# EAGLE library part CD4072BM96 (library KillSwitch)
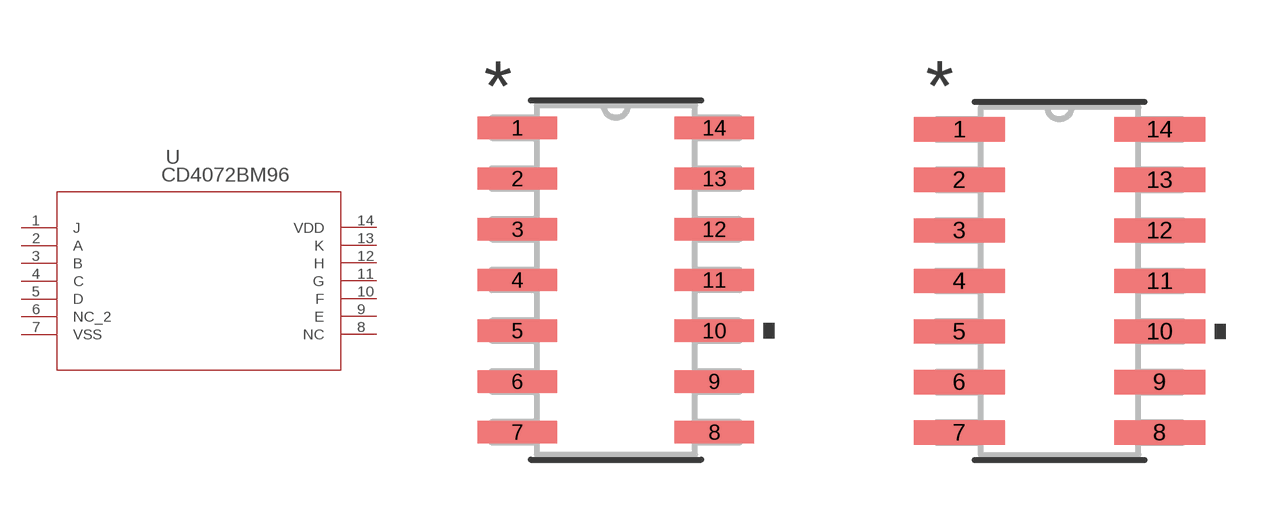
[diagram p0: symbol with the pads of D14; footprints D14, D14-M]

Designator prefix U

## CD4072BM96 (MANUFACTURER_PART_NUMBER: CD4072BM96; VENDOR: Texas Instruments)  [D14]
1  J  pas
2  A  pas
3  B  pas
4  C  pas
5  D  pas
6  NC_2  nc
7  VSS  pwr
8  NC  nc
9  E  pas
10  F  pas
11  G  pas
12  H  pas
13  K  pas
14  VDD  pwr

## CD4072BM96D14-M (MANUFACTURER_PART_NUMBER: CD4072BM96; VENDOR: Texas Instruments)  [D14-M]
Pads as for D14

## CD4072BM96D14-L (MANUFACTURER_PART_NUMBER: CD4072BM96; VENDOR: Texas Instruments)  [D14-L]
Pads as for D14

## Footprint D14 (pad centres in mm)
smd 1.981 x 0.559: 1 -2.464,3.81; 2 -2.464,2.54; 3 -2.464,1.27; 4 -2.464,0; 5 -2.464,-1.27; 6 -2.464,-2.54; 7 -2.464,-3.81; 8 2.464,-3.81; 9 2.464,-2.54; 10 2.464,-1.27; 11 2.464,0; 12 2.464,1.27; 13 2.464,2.54; 14 2.464,3.81

## Footprint D14-M (pad centres in mm)
smd 2.286 x 0.61: 1 -2.515,3.81; 2 -2.515,2.54; 3 -2.515,1.27; 4 -2.515,0; 5 -2.515,-1.27; 6 -2.515,-2.54; 7 -2.515,-3.81; 8 2.515,-3.81; 9 2.515,-2.54; 10 2.515,-1.27; 11 2.515,0; 12 2.515,1.27; 13 2.515,2.54; 14 2.515,3.81

## Footprint D14-L (pad centres in mm)
smd 1.676 x 0.508: 1 -2.413,3.81; 2 -2.413,2.54; 3 -2.413,1.27; 4 -2.413,0; 5 -2.413,-1.27; 6 -2.413,-2.54; 7 -2.413,-3.81; 8 2.413,-3.81; 9 2.413,-2.54; 10 2.413,-1.27; 11 2.413,0; 12 2.413,1.27; 13 2.413,2.54; 14 2.413,3.81